# EAGLE library part OLIMEX_CONNECTORS_RJLBC-060TC1_GND (library A10-A20-OLINUXINO-MICRO-4GB_Rev_D)
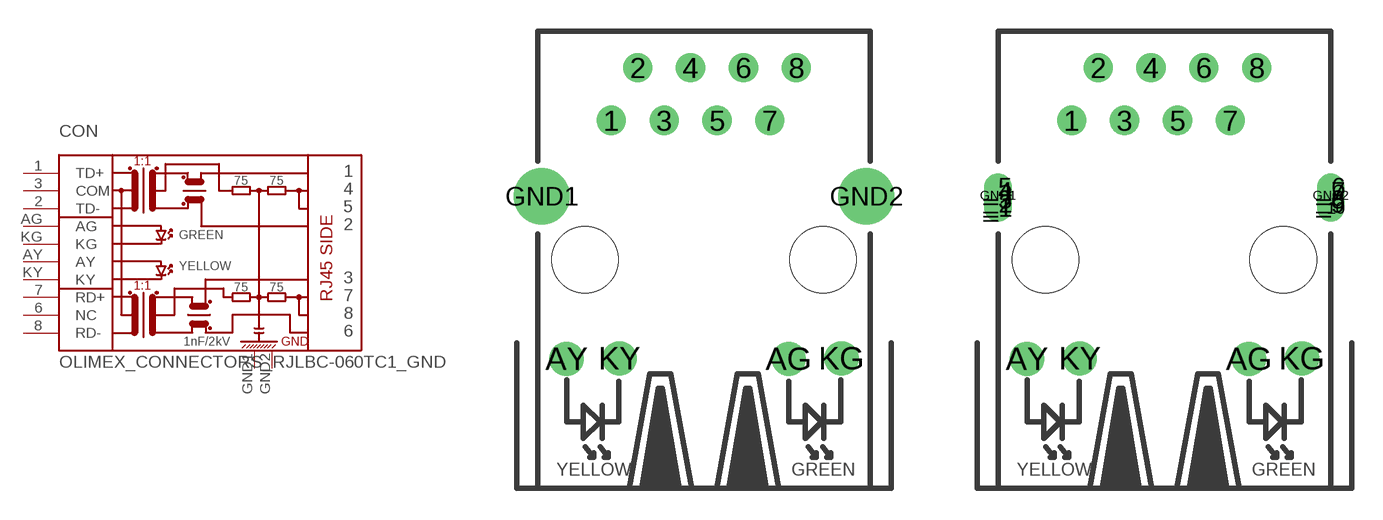
[diagram p4: symbol with the pads of OLIMEX_CONNECTORS_RJLBC-060TC1; footprints OLIMEX_CONNECTORS_RJLBC-060TC1, OLIMEX_CONNECTORS_RJLBC-060TC1_MILLING]

Designator prefix CON

## OLIMEX_CONNECTORS_RJLBC-060TC1_GND  [OLIMEX_CONNECTORS_RJLBC-060TC1]
1  TD+
2  TD-
3  COM
6  NC
7  RD+
8  RD-
AG  AG  pas
AY  AY  pas
GND1  GND1  in
GND2  GND2  in
KG  KG  pas
KY  KY  pas

## OLIMEX_CONNECTORS_RJLBC-060TC1_GND_MILLING  [OLIMEX_CONNECTORS_RJLBC-060TC1_MILLING]
Pads as for OLIMEX_CONNECTORS_RJLBC-060TC1

## Footprint OLIMEX_CONNECTORS_RJLBC-060TC1 (pad centres in mm)
LAN traf & connector
drill 0.9: 1 -4.455,6.7; 2 -3.185,9.24; 3 -1.915,6.7; 4 -0.645,9.24; 5 0.625,6.7; 6 1.895,9.24; 7 3.165,6.7; 8 4.435,9.24
drill 1.1: AG 4.07,-4.773; AY -6.61,-4.773; KG 6.61,-4.748; KY -4.07,-4.748
drill 1.8: GND1 -7.8,3.05; GND2 7.8,3.05
hole 3.2 at -5.715,0
hole 3.2 at 5.715,0

## Footprint OLIMEX_CONNECTORS_RJLBC-060TC1_MILLING (pad centres in mm)
drill 0.9: 1 -4.455,6.7; 2 -3.185,9.24; 3 -1.915,6.7; 4 -0.645,9.24; 5 0.625,6.7; 6 1.895,9.24; 7 3.165,6.7; 8 4.435,9.24
drill 0.8: _1 -8,2.5; _2 -8,2.7; _3 -8,2.9; _4 -8,3.3; _5 -8,3.5; _6 8,3.5; _7 8,3.3; _8 8,2.9; _9 8,2.7; _10 8,2.5; GND1 -8,3.1; GND2 8,3.1
drill 1.1: AG 4.07,-4.773; AY -6.61,-4.773; KG 6.61,-4.748; KY -4.07,-4.748
hole 3.2 at -5.715,0
hole 3.2 at 5.715,0